# EAGLE library part SON95P300X300X80-7N (library MAX5903_SON95P300X300X80-7N)
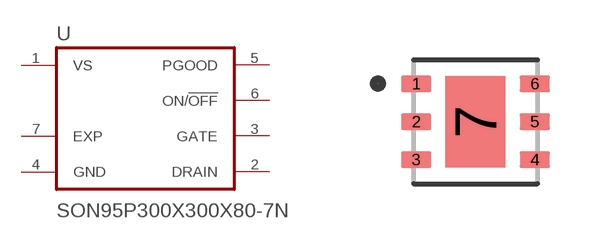
[diagram p0: symbol with the pads of SON95P300X300X80-7N; footprint SON95P300X300X80-7N]

Designator prefix U

## SON95P300X300X80-7N (A_MAX: 0.8; B_MAX: 0.45; B_MIN: 0.35; B_NOM: 0.4; D2_NOM: 2.3; D_MAX: 3.1; D_MIN: 2.9; D_NOM: 3.0; E2_NOM: 1.5; ENOM: 0.95; E_MAX: 3.1; E_MIN: 2.9; E_NOM: 3.0; L_MAX: 0.4; L_MIN: 0.2; L_NOM: 0.3; MANUFACTURER: Maxim Integrated; PIN_COUNT: 6.0; SNAPEDA_PACKAGE_ID: 70956; STANDARD: IPC 7351B)  [SON95P300X300X80-7N]
1  VS  pwr
2  DRAIN  in
3  GATE  out
4  GND  pwr
5  PGOOD  out
6  ON/!OFF  in
7  EXP

## Footprint SON95P300X300X80-7N (pad centres in mm)
smd 0.76 x 0.42: 1 -1.485,0.95; 2 -1.485,0; 3 -1.485,-0.95; 4 1.485,-0.95; 5 1.485,0; 6 1.485,0.95
smd 1.5 x 2.3: 7 0,0